# Altium footprint library RM8_trans.PcbLib: 1 footprints
Each footprint in its own frame and in the unit in brackets; x right, y up, seen from the top. Pads: shape width x height; smd on the part's side, far side on the other; paste and mask are expansions set on the pad; w line width, h text height; cw(c..) or ccw(c..) is an arc to the next point about the centre after c.
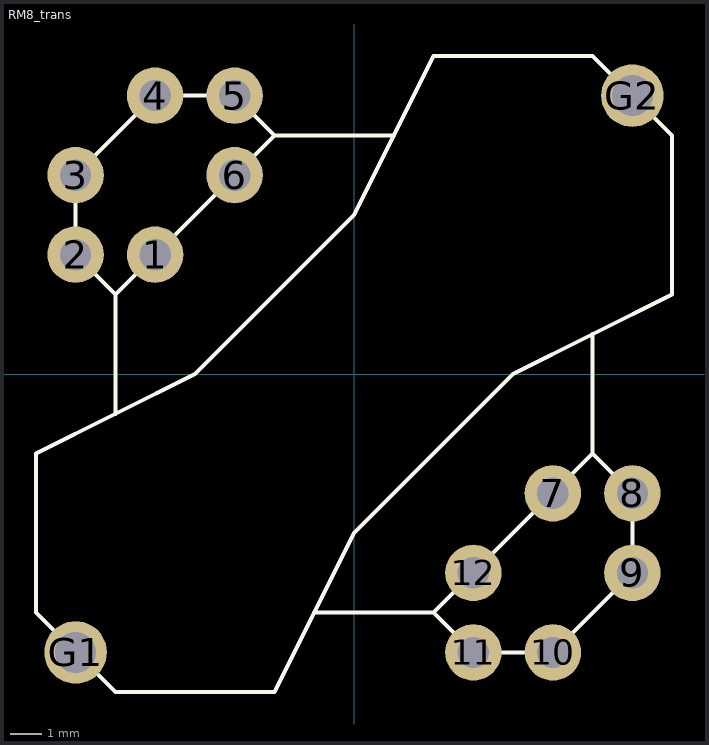
[diagram p0: the footprint, top view; thin cyan lines are the x and y axes]

## RM8_trans [mm]
pads (14):
  round 1.8 hole 1: 1(-6.35,3.81) 2(-8.89,3.81) 3(-8.89,6.35) 4(-6.35,8.89) 5(-3.81,8.89) 6(-3.81,6.35) 7(6.35,-3.81) 8(8.89,-3.81) 9(8.89,-6.35) 10(6.35,-8.89) 11(3.81,-8.89) 12(3.81,-6.35)
  round 2 hole 1.3: G1(-8.89,-8.89) G2(8.89,8.89)
Top Overlay:
  lines w0.127: -7.62,-1.27 -10.16,-2.54 -10.16,-7.62 -7.62,-10.16 -2.54,-10.16 -1.27,-7.62 ; -7.62,-1.27 -5.08,0 0,5.08 1.27,7.62 ; -7.62,-1.27 -7.62,2.54 ; -7.62,2.54 -2.54,7.62 ; -7.62,2.54 -8.89,3.81 -8.89,6.35 -6.35,8.89 -3.81,8.89 -2.54,7.62 ; -2.54,7.62 1.27,7.62 ; -1.27,-7.62 0,-5.08 5.08,0 7.62,1.27 ; -1.27,-7.62 2.54,-7.62 ; 1.27,7.62 2.54,10.16 7.62,10.16 10.16,7.62 10.16,2.54 7.62,1.27 ; 2.54,-7.62 3.81,-8.89 6.35,-8.89 8.89,-6.35 8.89,-3.81 7.62,-2.54 ; 2.54,-7.62 7.62,-2.54 ; 7.62,-2.54 7.62,1.27
3D body: height 16.5, standoff 0, extent -10.16,-10.16 10.16,10.16
3D body: height 1, standoff 0, extent -8.89,0.127 0,8.89
3D body: height 1, standoff 0, extent 0.142,-8.909 8.905,-0.019
3D body: height 0, standoff -5.5, extent -4.06,6.1 -3.56,6.6
3D body: height 0, standoff -5.5, extent -4.06,8.64 -3.56,9.14
3D body: height 0, standoff -5.5, extent -6.6,8.64 -6.1,9.14
3D body: height 0, standoff -5.5, extent -9.14,6.1 -8.64,6.6
3D body: height 0, standoff -5.5, extent -9.14,3.56 -8.64,4.06
3D body: height 0, standoff -5.5, extent -6.6,3.56 -6.1,4.06
3D body: height 0, standoff -5.5, extent 6.1,-4.06 6.6,-3.56
3D body: height 0, standoff -5.5, extent 8.64,8.64 9.14,9.14
3D body: height 0, standoff -5.5, extent -9.14,-9.14 -8.64,-8.64
3D body: height 0, standoff -5.5, extent 8.64,-4.06 9.14,-3.56
3D body: height 0, standoff -5.5, extent 8.64,-6.6 9.14,-6.1
3D body: height 0, standoff -5.5, extent 6.1,-9.14 6.6,-8.64
3D body: height 0, standoff -5.5, extent 3.56,-9.14 4.06,-8.64
3D body: height 0, standoff -5.5, extent 3.56,-6.6 4.06,-6.1